# Altium schematic symbol library SCH - POWER - SWITCHMODE - TI TPS53310_RGT_16.SchLib: 1 symbol
Pins are listed as number, name and electrical type; pins without a type are passive.

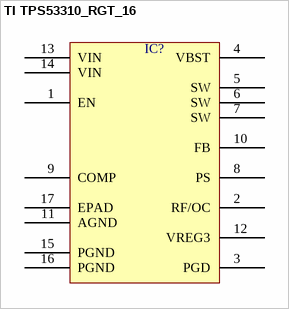
[diagram p0: symbol TI TPS53310_RGT_16]

## TI TPS53310_RGT_16
designator IC?  (value not drawn)
pins: 1 EN, 2 RF/OC, 3 PGD, 4 VBST, 5 SW, 6 SW, 7 SW, 8 PS, 9 COMP, 10 FB, 11 AGND, 12 VREG3, 13 VIN, 14 VIN, 15 PGND, 16 PGND, 17 EPAD